# EAGLE library part CON_2.54_1X6 (library Ravender)
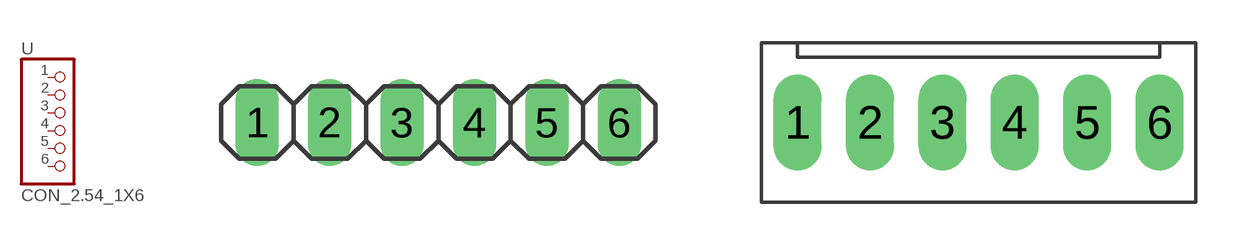
[diagram p2: symbol with the pads of CON_2.54_GOLDPIN_PROSTY_6; footprints CON_2.54_GOLDPIN_PROSTY_6, CON_2.54_WF_6]

Designator prefix -

## CON_2.54_1X6GOLDPIN  [CON_2.54_GOLDPIN_PROSTY_6]
1  1  pas
2  2  pas
3  3  pas
4  4  pas
5  5  pas
6  6  pas

## CON_2.54_1X6WF  [CON_2.54_WF_6]
Pads as for CON_2.54_GOLDPIN_PROSTY_6

## Footprint CON_2.54_GOLDPIN_PROSTY_6 (pad centres in mm)
PIN HEADER
drill 1.016 long: 1 -6.35,0; 2 -3.81,0; 3 -1.27,0; 4 1.27,0; 5 3.81,0; 6 6.35,0

## Footprint CON_2.54_WF_6 (pad centres in mm)
PIN HEADER
drill 1.016 pad 1.676 long: 1 -6.35,0; 2 -3.81,0; 3 -1.27,0; 4 1.27,0; 5 3.81,0; 6 6.35,0